# EAGLE library part CC3200R1M2RGCR (library CC3200R1M2RGCR)
Check prices <https://pricing.snapeda.com/parts/CC3200R1M2RGCR/Texas%20Instruments/view-part?ref=eda>
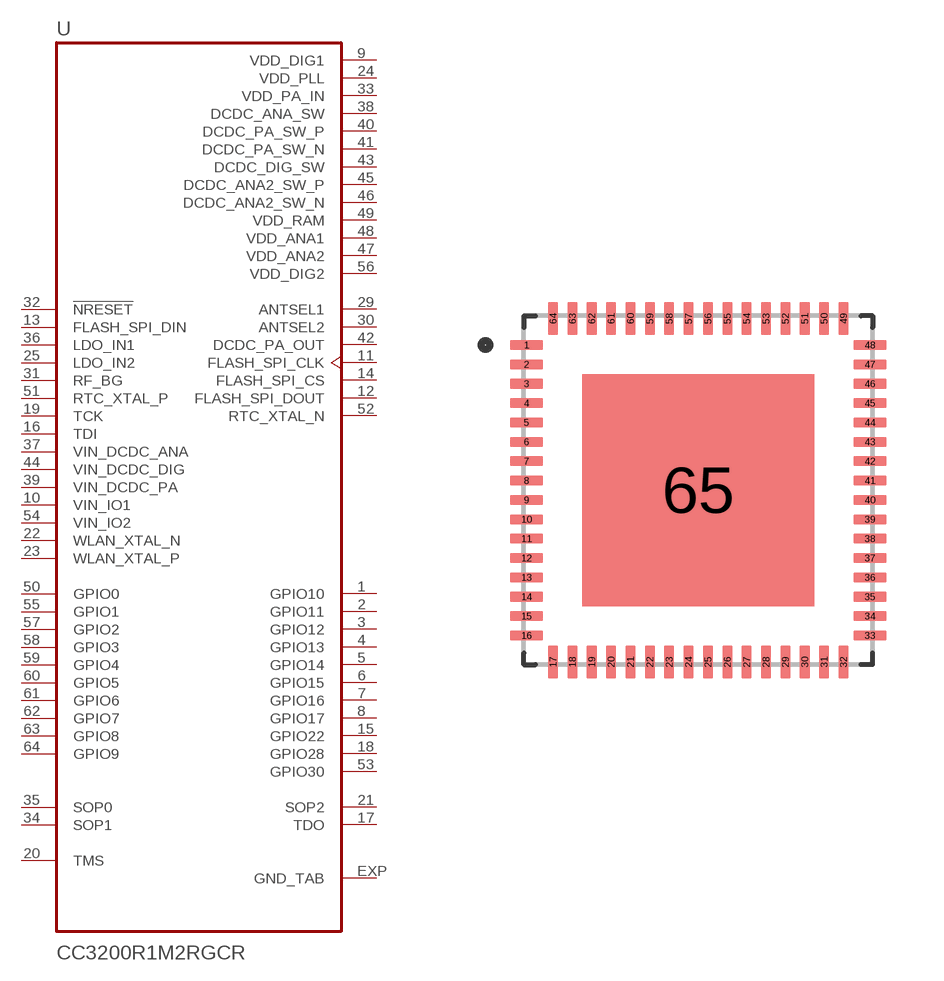
[diagram p0: symbol with the pads of QFN50P900X900X100-65N; footprint QFN50P900X900X100-65N]

Designator prefix U

## CC3200R1M2RGCR (Availability: Warning; Description: SimpleLink 32-bit Arm Cortex-M4 Wi-Fi wireless MCU with 2 TLS/SSL and 256kB RAM 64-VQFN -40 to 85; MF: Texas Instruments; MP: CC3200R1M2RGCR; Package: VQFN-64 Texas Instruments; Price: None; Purchase-URL: https://pricing.snapeda.com/search/part/CC3200R1M2RGCR/?ref=eda)  [QFN50P900X900X100-65N]
1  GPIO10
2  GPIO11
3  GPIO12
4  GPIO13
5  GPIO14
6  GPIO15
7  GPIO16
8  GPIO17
9  VDD_DIG1  pwr
10  VIN_IO1  in
11  FLASH_SPI_CLK  out
12  FLASH_SPI_DOUT  out
13  FLASH_SPI_DIN  in
14  FLASH_SPI_CS  out
15  GPIO22
16  TDI  in
17  TDO  out
18  GPIO28
19  TCK  in
20  TMS
21  SOP2  out
22  WLAN_XTAL_N  in
23  WLAN_XTAL_P  in
24  VDD_PLL  pwr
25  LDO_IN2  in
29  ANTSEL1  out
30  ANTSEL2  out
31  RF_BG  in
32  !NRESET  in
33  VDD_PA_IN  pwr
34  SOP1
35  SOP0
36  LDO_IN1  in
37  VIN_DCDC_ANA  in
38  DCDC_ANA_SW  pwr
39  VIN_DCDC_PA  in
40  DCDC_PA_SW_P  pwr
41  DCDC_PA_SW_N  pwr
42  DCDC_PA_OUT  out
43  DCDC_DIG_SW  pwr
44  VIN_DCDC_DIG  in
45  DCDC_ANA2_SW_P  pwr
46  DCDC_ANA2_SW_N  pwr
47  VDD_ANA2  pwr
48  VDD_ANA1  pwr
49  VDD_RAM  pwr
50  GPIO0
51  RTC_XTAL_P  in
52  RTC_XTAL_N  out
53  GPIO30
54  VIN_IO2  in
55  GPIO1
56  VDD_DIG2  pwr
57  GPIO2
58  GPIO3
59  GPIO4
60  GPIO5
61  GPIO6
62  GPIO7
63  GPIO8
64  GPIO9
EXP  GND_TAB  pwr

## Footprint QFN50P900X900X100-65N (pad centres in mm)
smd 0.86 x 0.26: 1 -4.435,3.75; 2 -4.435,3.25; 3 -4.435,2.75; 4 -4.435,2.25; 5 -4.435,1.75; 6 -4.435,1.25; 7 -4.435,0.75; 8 -4.435,0.25; 9 -4.435,-0.25; 10 -4.435,-0.75; 11 -4.435,-1.25; 12 -4.435,-1.75; 13 -4.435,-2.25; 14 -4.435,-2.75; 15 -4.435,-3.25; 16 -4.435,-3.75; 33 4.435,-3.75; 34 4.435,-3.25; 35 4.435,-2.75; 36 4.435,-2.25; 37 4.435,-1.75; 38 4.435,-1.25; 39 4.435,-0.75; 40 4.435,-0.25; 41 4.435,0.25; 42 4.435,0.75; 43 4.435,1.25; 44 4.435,1.75; 45 4.435,2.25; 46 4.435,2.75; 47 4.435,3.25; 48 4.435,3.75
smd 0.26 x 0.86: 17 -3.75,-4.435; 18 -3.25,-4.435; 19 -2.75,-4.435; 20 -2.25,-4.435; 21 -1.75,-4.435; 22 -1.25,-4.435; 23 -0.75,-4.435; 24 -0.25,-4.435; 25 0.25,-4.435; 26 0.75,-4.435; 27 1.25,-4.435; 28 1.75,-4.435; 29 2.25,-4.435; 30 2.75,-4.435; 31 3.25,-4.435; 32 3.75,-4.435; 49 3.75,4.435; 50 3.25,4.435; 51 2.75,4.435; 52 2.25,4.435; 53 1.75,4.435; 54 1.25,4.435; 55 0.75,4.435; 56 0.25,4.435; 57 -0.25,4.435; 58 -0.75,4.435; 59 -1.25,4.435; 60 -1.75,4.435; 61 -2.25,4.435; 62 -2.75,4.435; 63 -3.25,4.435; 64 -3.75,4.435
smd 6 x 6: 65 0,0